# Altium schematic symbol library Servoheader.SchLib: 1 symbol
Pins are listed as number, name and electrical type; pins without a type are passive.

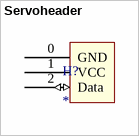
[diagram p0: symbol Servoheader]

## Servoheader
designator H?
footprint Servoheader
pins: 0 GND (power), 1 VCC (power), 2 Data (io)